# Altium schematic symbol library RT0603BRD0735K2L.SchLib: 1 symbol
Pins are listed as number, name and electrical type; pins without a type are passive.

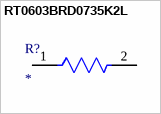
[diagram p0: symbol RT0603BRD0735K2L]

## RT0603BRD0735K2L
designator R?
High Precision-High Stability Chip Resistor Thin Film 0603 35.2kOhm 0.1% Paper T/R; Manufacturer: Yageo; Manufacturer Part Number: RT0603BRD0735K2L; Value: 35.2kR; Temperature Coefficient: 25ppm/°C; Max Power Dissipation: 100mW; Supplier: Digikey; Supplier Part Number: 13-RT0603BRD0735K2LCT-ND; RoHS: Yes; Category: Chip SMD Resistors; Stock: 17147; Pricing: 1=0.1, 10=0.07, 25=0.0664, 50=0.0622, 100=0.0551, 250=0.05152, 500=0.04676, 1000=0.04432 (USD); Case/Package: 0603; Min Operating Temperature: -55°C; Max Operating Temperature: 155°C; Tolerance: 0.1%; Packaging: Tape and Reel; Number of Terminations: 2; Series: RT; RoHS Compliant: Yes; ComponentLink1URL: https://www.yageo.com/upload/media/product/productsearch/datasheet/rchip/PYu-RT_1-to-0.01_RoHS_L_12.pdf?src-supplier=Digikey; ComponentLink1Description: https://www.yageo.com/upload/media/product/productsearch/datasheet/rchip/PYu-RT_1-to-0.01_RoHS_L_12.pdf?src-supplier=Digikey
footprint FP-RC0603-0_55-IPC_A
footprint FP-RC0603-0_55-IPC_B
footprint FP-RC0603-0_55-IPC_C
footprint FP-RC0603-0_55-MFG
pins: 1, 2